# Altium schematic symbol library LM2596S-3.3.SchLib: 1 symbol
Pins are listed as number, name and electrical type; pins without a type are passive.

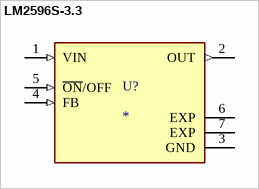
[diagram p0: symbol LM2596S-3.3]

## LM2596S-3.3
designator U?
Conv DC-DC 4.5V to 40V Inv/Step Down Single-Out 3.3V 3A 6-Pin(5+Tab) TO-263 Tube; MF: {'manufacturer': u'Texas Instruments'}; MP: LM2596S-3.3; Availability: Unavailable; Value: *; Price: None; Package: None
footprint VREG_LM2596S-3.3
pins: 1 VIN (in), 2 OUT (out), 3 GND (power), 4 FB (in), 5 ~{ON}/OFF (in), 6 EXP (power), 7 EXP (power)